# EAGLE library part TPS2378 (library balto)
IEEE 802.3at PoE High-Power PD Interface
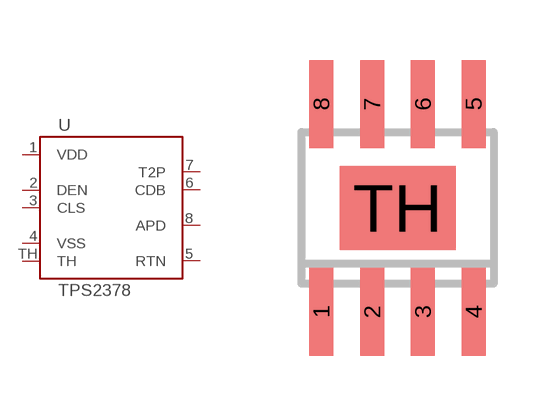
[diagram p50: symbol with the pads of SOIC8-POWERPAD; footprint SOIC8-POWERPAD]

Designator prefix U

## TPS2378  [SOIC8-POWERPAD]
1  VDD
2  DEN
3  CLS
4  VSS
5  RTN
6  CDB
7  T2P
8  APD
TH  TH

## Footprint SOIC8-POWERPAD (pad centres in mm)
Small Outline IC w/ PowerPAD
smd 0.6 x 2.2: 1 -1.905,-2.6; 2 -0.635,-2.6; 3 0.635,-2.6; 4 1.905,-2.6; 5 1.905,2.6; 6 0.635,2.6; 7 -0.635,2.6; 8 -1.905,2.6
smd 2.9 x 2.1: TH 0,0